# Altium schematic symbol library SCH - POWER - SUPPLY - REC30K-2415DZ.SchLib: 1 symbol
Pins are listed as number, name and electrical type; pins without a type are passive.

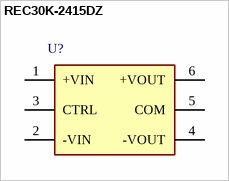
[diagram p0: symbol REC30K-2415DZ]

## REC30K-2415DZ
designator U?
pins: 1 +VIN (power), 2 -VIN (power), 3 CTRL, 4 -VOUT (power), 5 COM, 6 +VOUT (power)